# Altium integrated library Maxim Supervisors, Voltage Monitors and Sequencers.IntLib: 631 symbols (part 1 of 13)
Pins are listed as number, name and electrical type; pins without a type are passive.

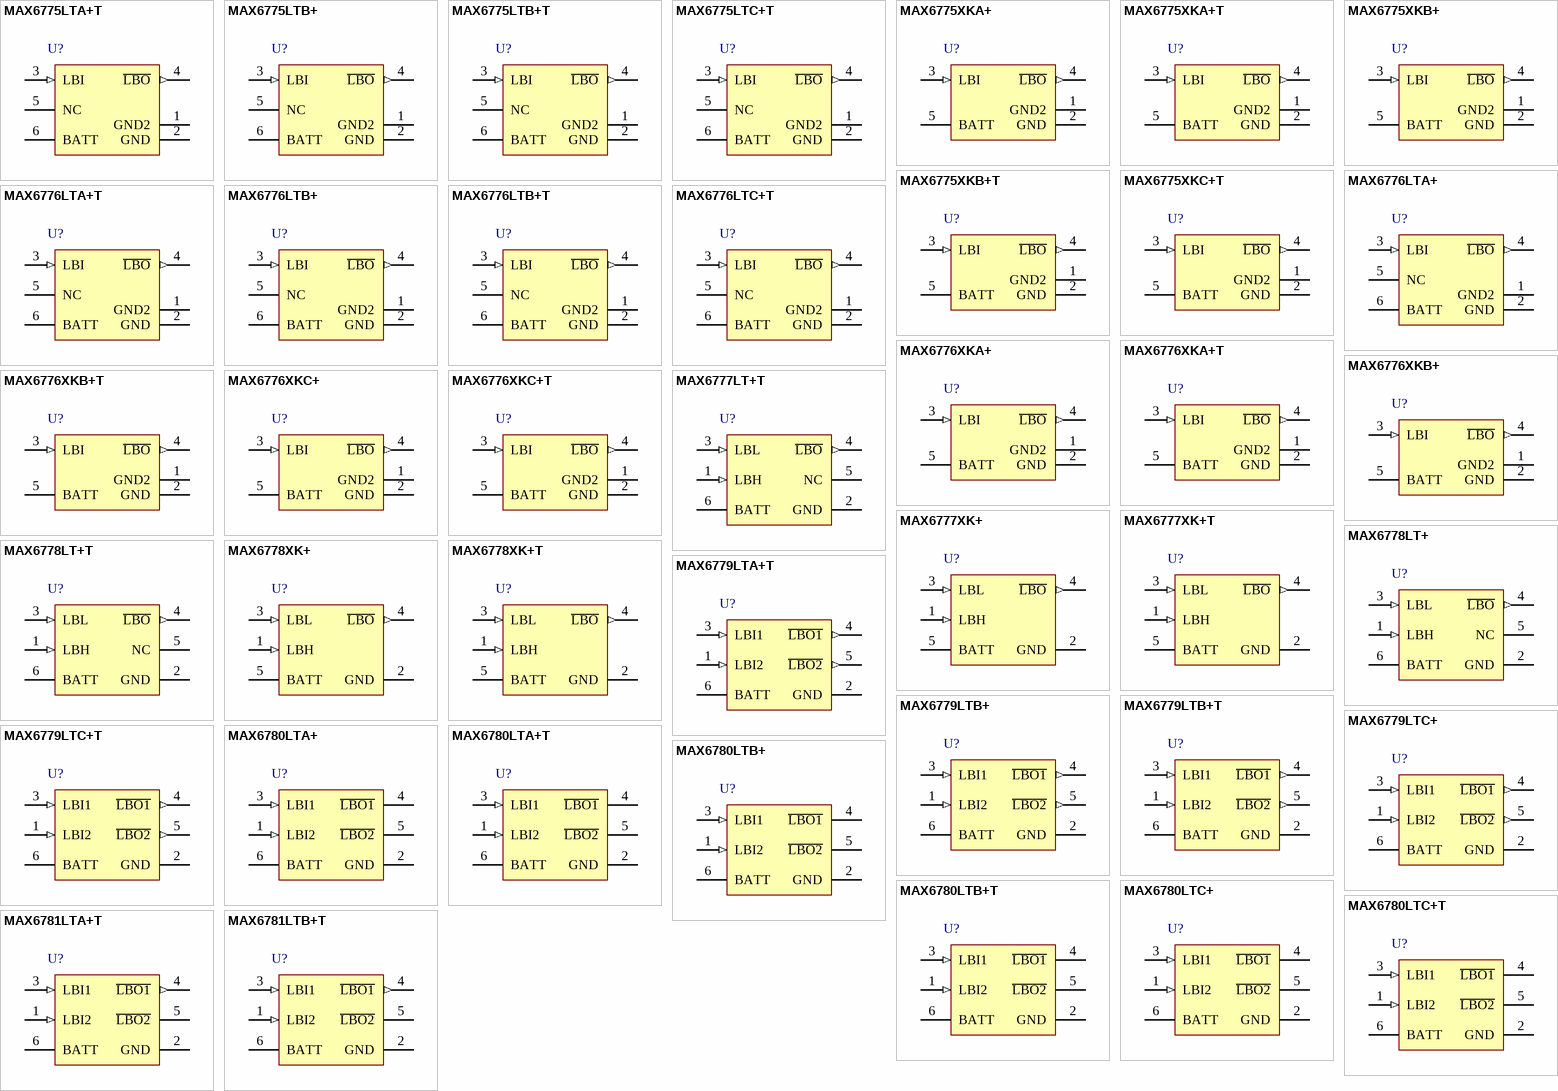
[diagram p0: symbols MAX6775LTA+T to MAX6781LTB+T]

## MAX6775LTA+T
designator U?
Low-Power, 1%-Accurate Battery Monitor, Single LBO output, Push-Pull output, Fixed hysteresis, 6-Pin DFN, -40°C to +85°C, Pb-Free, Tape and Reel; DatasheetVersion: Rev 4, May-2009; PackageVersion: revG, 2012; PackageReference: L611+1; PackageDescription: 6-Pin Micro Dual Flatpack No Lead, 1.5 x 1 x 0.8 mm Body, 0.5 mm Pitch, uDFN; ComponentLink1Description: Manufacturer URL; ComponentLink1URL: http://www.maxim-ic.com; ComponentLink2Description: Datasheet; ComponentLink2URL: http://datasheets.maxim-ic.com/en/ds/MAX6775-MAX6781.pdf; ComponentLink3Description: Package Specification; ComponentLink3URL: http://pdfserv.maxim-ic.com/package_dwgs/21-0147.PDF
footprint L611+1_N (SON, 6-Leads, Body 1.5x1mm, Pitch 0.5mm, IPC Medium Density)
footprint L611+1_L (SON, 6-Leads, Body 1.5x1mm, Pitch 0.5mm, IPC High Density)
footprint L611+1_M (SON, 6-Leads, Body 1.5x1mm, Pitch 0.5mm, IPC Low Density)
pins: 1 GND2 (power), 2 GND (power), 3 LBI (in), 4 ~{LBO} (out), 5 NC, 6 BATT (power)

## MAX6775LTB+
designator U?
Low-Power, 1%-Accurate Battery Monitor, Single LBO output, Push-Pull output, Fixed hysteresis, 6-Pin DFN, -40°C to +85°C, Pb-Free; DatasheetVersion: Rev 4, May-2009; PackageVersion: revG, 2012; PackageReference: L611+1; PackageDescription: 6-Pin Micro Dual Flatpack No Lead, 1.5 x 1 x 0.8 mm Body, 0.5 mm Pitch, uDFN; ComponentLink1Description: Manufacturer URL; ComponentLink1URL: http://www.maxim-ic.com; ComponentLink2Description: Datasheet; ComponentLink2URL: http://datasheets.maxim-ic.com/en/ds/MAX6775-MAX6781.pdf; ComponentLink3Description: Package Specification; ComponentLink3URL: http://pdfserv.maxim-ic.com/package_dwgs/21-0147.PDF
footprint L611+1_N (SON, 6-Leads, Body 1.5x1mm, Pitch 0.5mm, IPC Medium Density)
footprint L611+1_L (SON, 6-Leads, Body 1.5x1mm, Pitch 0.5mm, IPC High Density)
footprint L611+1_M (SON, 6-Leads, Body 1.5x1mm, Pitch 0.5mm, IPC Low Density)
pins: 1 GND2 (power), 2 GND (power), 3 LBI (in), 4 ~{LBO} (out), 5 NC, 6 BATT (power)

## MAX6775LTB+T
designator U?
Low-Power, 1%-Accurate Battery Monitor, Single LBO output, Push-Pull output, Fixed hysteresis, 6-Pin DFN, -40°C to +85°C, Pb-Free, Tape and Reel; DatasheetVersion: Rev 4, May-2009; PackageVersion: revG, 2012; PackageReference: L611+1; PackageDescription: 6-Pin Micro Dual Flatpack No Lead, 1.5 x 1 x 0.8 mm Body, 0.5 mm Pitch, uDFN; ComponentLink1Description: Manufacturer URL; ComponentLink1URL: http://www.maxim-ic.com; ComponentLink2Description: Datasheet; ComponentLink2URL: http://datasheets.maxim-ic.com/en/ds/MAX6775-MAX6781.pdf; ComponentLink3Description: Package Specification; ComponentLink3URL: http://pdfserv.maxim-ic.com/package_dwgs/21-0147.PDF
footprint L611+1_N (SON, 6-Leads, Body 1.5x1mm, Pitch 0.5mm, IPC Medium Density)
footprint L611+1_L (SON, 6-Leads, Body 1.5x1mm, Pitch 0.5mm, IPC High Density)
footprint L611+1_M (SON, 6-Leads, Body 1.5x1mm, Pitch 0.5mm, IPC Low Density)
pins: 1 GND2 (power), 2 GND (power), 3 LBI (in), 4 ~{LBO} (out), 5 NC, 6 BATT (power)

## MAX6775LTC+T
designator U?
Low-Power, 1%-Accurate Battery Monitor, Single LBO output, Push-Pull output, Fixed hysteresis, 6-Pin DFN, -40°C to +85°C, Pb-Free, Tape and Reel; DatasheetVersion: Rev 4, May-2009; PackageVersion: revG, 2012; PackageReference: L611+1; PackageDescription: 6-Pin Micro Dual Flatpack No Lead, 1.5 x 1 x 0.8 mm Body, 0.5 mm Pitch, uDFN; ComponentLink1Description: Manufacturer URL; ComponentLink1URL: http://www.maxim-ic.com; ComponentLink2Description: Datasheet; ComponentLink2URL: http://datasheets.maxim-ic.com/en/ds/MAX6775-MAX6781.pdf; ComponentLink3Description: Package Specification; ComponentLink3URL: http://pdfserv.maxim-ic.com/package_dwgs/21-0147.PDF
footprint L611+1_N (SON, 6-Leads, Body 1.5x1mm, Pitch 0.5mm, IPC Medium Density)
footprint L611+1_L (SON, 6-Leads, Body 1.5x1mm, Pitch 0.5mm, IPC High Density)
footprint L611+1_M (SON, 6-Leads, Body 1.5x1mm, Pitch 0.5mm, IPC Low Density)
pins: 1 GND2 (power), 2 GND (power), 3 LBI (in), 4 ~{LBO} (out), 5 NC, 6 BATT (power)

## MAX6775XKA+
designator U?
Low-Power, 1%-Accurate Battery Monitor, Single LBO output, Push-Pull output, Fixed hysteresis, 5-Pin SC70, -40°C to +85°C, Pb-Free; DatasheetVersion: Rev 4, May-2009; PackageVersion: revE, 2006; PackageReference: X5+1; PackageDescription: 5-Pin SC70 Transistor Package, 0.65 mm Pitch, 2.2 mm Lead Span; Code_JEDEC: MO-203; ComponentLink1Description: Manufacturer URL; ComponentLink1URL: http://www.maxim-ic.com; ComponentLink2Description: Datasheet; ComponentLink2URL: http://datasheets.maxim-ic.com/en/ds/MAX6775-MAX6781.pdf; ComponentLink3Description: Package Specification; ComponentLink3URL: http://pdfserv.maxim-ic.com/package_dwgs/21-0076.PDF
footprint X5+1_N (SOT353, 5-Leads, Body 2x1.3mm, Pitch 0.65mm, Lead Span 2.1mm, IPC Medium Density)
footprint X5+1_L (SOT353, 5-Leads, Body 2x1.3mm, Pitch 0.65mm, Lead Span 2.1mm, IPC High Density)
footprint X5+1_M (SOT353, 5-Leads, Body 2x1.3mm, Pitch 0.65mm, Lead Span 2.1mm, IPC Low Density)
pins: 1 GND2 (power), 2 GND (power), 3 LBI (in), 4 ~{LBO} (out), 5 BATT (power)

## MAX6775XKA+T
designator U?
Low-Power, 1%-Accurate Battery Monitor, Single LBO output, Push-Pull output, Fixed hysteresis, 5-Pin SC70, -40°C to +85°C, Pb-Free, Tape and Reel; DatasheetVersion: Rev 4, May-2009; PackageVersion: revE, 2006; PackageReference: X5+1; PackageDescription: 5-Pin SC70 Transistor Package, 0.65 mm Pitch, 2.2 mm Lead Span; Code_JEDEC: MO-203; ComponentLink1Description: Manufacturer URL; ComponentLink1URL: http://www.maxim-ic.com; ComponentLink2Description: Datasheet; ComponentLink2URL: http://datasheets.maxim-ic.com/en/ds/MAX6775-MAX6781.pdf; ComponentLink3Description: Package Specification; ComponentLink3URL: http://pdfserv.maxim-ic.com/package_dwgs/21-0076.PDF
footprint X5+1_N (SOT353, 5-Leads, Body 2x1.3mm, Pitch 0.65mm, Lead Span 2.1mm, IPC Medium Density)
footprint X5+1_L (SOT353, 5-Leads, Body 2x1.3mm, Pitch 0.65mm, Lead Span 2.1mm, IPC High Density)
footprint X5+1_M (SOT353, 5-Leads, Body 2x1.3mm, Pitch 0.65mm, Lead Span 2.1mm, IPC Low Density)
pins: 1 GND2 (power), 2 GND (power), 3 LBI (in), 4 ~{LBO} (out), 5 BATT (power)

## MAX6775XKB+
designator U?
Low-Power, 1%-Accurate Battery Monitor, Single LBO output, Push-Pull output, Fixed hysteresis, 5-Pin SC70, -40°C to +85°C, Pb-Free; DatasheetVersion: Rev 4, May-2009; PackageVersion: revE, 2006; PackageReference: X5+1; PackageDescription: 5-Pin SC70 Transistor Package, 0.65 mm Pitch, 2.2 mm Lead Span; Code_JEDEC: MO-203; ComponentLink1Description: Manufacturer URL; ComponentLink1URL: http://www.maxim-ic.com; ComponentLink2Description: Datasheet; ComponentLink2URL: http://datasheets.maxim-ic.com/en/ds/MAX6775-MAX6781.pdf; ComponentLink3Description: Package Specification; ComponentLink3URL: http://pdfserv.maxim-ic.com/package_dwgs/21-0076.PDF
footprint X5+1_N (SOT353, 5-Leads, Body 2x1.3mm, Pitch 0.65mm, Lead Span 2.1mm, IPC Medium Density)
footprint X5+1_L (SOT353, 5-Leads, Body 2x1.3mm, Pitch 0.65mm, Lead Span 2.1mm, IPC High Density)
footprint X5+1_M (SOT353, 5-Leads, Body 2x1.3mm, Pitch 0.65mm, Lead Span 2.1mm, IPC Low Density)
pins: 1 GND2 (power), 2 GND (power), 3 LBI (in), 4 ~{LBO} (out), 5 BATT (power)

## MAX6775XKB+T
designator U?
Low-Power, 1%-Accurate Battery Monitor, Single LBO output, Push-Pull output, Fixed hysteresis, 5-Pin SC70, -40°C to +85°C, Pb-Free, Tape and Reel; DatasheetVersion: Rev 4, May-2009; PackageVersion: revE, 2006; PackageReference: X5+1; PackageDescription: 5-Pin SC70 Transistor Package, 0.65 mm Pitch, 2.2 mm Lead Span; Code_JEDEC: MO-203; ComponentLink1Description: Manufacturer URL; ComponentLink1URL: http://www.maxim-ic.com; ComponentLink2Description: Datasheet; ComponentLink2URL: http://datasheets.maxim-ic.com/en/ds/MAX6775-MAX6781.pdf; ComponentLink3Description: Package Specification; ComponentLink3URL: http://pdfserv.maxim-ic.com/package_dwgs/21-0076.PDF
footprint X5+1_N (SOT353, 5-Leads, Body 2x1.3mm, Pitch 0.65mm, Lead Span 2.1mm, IPC Medium Density)
footprint X5+1_L (SOT353, 5-Leads, Body 2x1.3mm, Pitch 0.65mm, Lead Span 2.1mm, IPC High Density)
footprint X5+1_M (SOT353, 5-Leads, Body 2x1.3mm, Pitch 0.65mm, Lead Span 2.1mm, IPC Low Density)
pins: 1 GND2 (power), 2 GND (power), 3 LBI (in), 4 ~{LBO} (out), 5 BATT (power)

## MAX6775XKC+T
designator U?
Low-Power, 1%-Accurate Battery Monitor, Single LBO output, Push-Pull output, Fixed hysteresis, 5-Pin SC70, -40°C to +85°C, Pb-Free, Tape and Reel; DatasheetVersion: Rev 4, May-2009; PackageVersion: revE, 2006; PackageReference: X5+1; PackageDescription: 5-Pin SC70 Transistor Package, 0.65 mm Pitch, 2.2 mm Lead Span; Code_JEDEC: MO-203; ComponentLink1Description: Manufacturer URL; ComponentLink1URL: http://www.maxim-ic.com; ComponentLink2Description: Datasheet; ComponentLink2URL: http://datasheets.maxim-ic.com/en/ds/MAX6775-MAX6781.pdf; ComponentLink3Description: Package Specification; ComponentLink3URL: http://pdfserv.maxim-ic.com/package_dwgs/21-0076.PDF
footprint X5+1_N (SOT353, 5-Leads, Body 2x1.3mm, Pitch 0.65mm, Lead Span 2.1mm, IPC Medium Density)
footprint X5+1_L (SOT353, 5-Leads, Body 2x1.3mm, Pitch 0.65mm, Lead Span 2.1mm, IPC High Density)
footprint X5+1_M (SOT353, 5-Leads, Body 2x1.3mm, Pitch 0.65mm, Lead Span 2.1mm, IPC Low Density)
pins: 1 GND2 (power), 2 GND (power), 3 LBI (in), 4 ~{LBO} (out), 5 BATT (power)

## MAX6776LTA+
designator U?
Low-Power, 1%-Accurate Battery Monitor, Single LBO output, Open-Drain output, Fixed hysteresis, 6-Pin DFN, -40°C to +85°C, Pb-Free; DatasheetVersion: Rev 4, May-2009; PackageVersion: revG, 2012; PackageReference: L611+1; PackageDescription: 6-Pin Micro Dual Flatpack No Lead, 1.5 x 1 x 0.8 mm Body, 0.5 mm Pitch, uDFN; ComponentLink1Description: Manufacturer URL; ComponentLink1URL: http://www.maxim-ic.com; ComponentLink2Description: Datasheet; ComponentLink2URL: http://datasheets.maxim-ic.com/en/ds/MAX6775-MAX6781.pdf; ComponentLink3Description: Package Specification; ComponentLink3URL: http://pdfserv.maxim-ic.com/package_dwgs/21-0147.PDF
footprint L611+1_N (SON, 6-Leads, Body 1.5x1mm, Pitch 0.5mm, IPC Medium Density)
footprint L611+1_L (SON, 6-Leads, Body 1.5x1mm, Pitch 0.5mm, IPC High Density)
footprint L611+1_M (SON, 6-Leads, Body 1.5x1mm, Pitch 0.5mm, IPC Low Density)
pins: 1 GND2 (power), 2 GND (power), 3 LBI (in), 4 ~{LBO} (out), 5 NC, 6 BATT (power)

## MAX6776LTA+T
designator U?
Low-Power, 1%-Accurate Battery Monitor, Single LBO output, Open-Drain output, Fixed hysteresis, 6-Pin DFN, -40°C to +85°C, Pb-Free, Tape and Reel; DatasheetVersion: Rev 4, May-2009; PackageVersion: revG, 2012; PackageReference: L611+1; PackageDescription: 6-Pin Micro Dual Flatpack No Lead, 1.5 x 1 x 0.8 mm Body, 0.5 mm Pitch, uDFN; ComponentLink1Description: Manufacturer URL; ComponentLink1URL: http://www.maxim-ic.com; ComponentLink2Description: Datasheet; ComponentLink2URL: http://datasheets.maxim-ic.com/en/ds/MAX6775-MAX6781.pdf; ComponentLink3Description: Package Specification; ComponentLink3URL: http://pdfserv.maxim-ic.com/package_dwgs/21-0147.PDF
footprint L611+1_N (SON, 6-Leads, Body 1.5x1mm, Pitch 0.5mm, IPC Medium Density)
footprint L611+1_L (SON, 6-Leads, Body 1.5x1mm, Pitch 0.5mm, IPC High Density)
footprint L611+1_M (SON, 6-Leads, Body 1.5x1mm, Pitch 0.5mm, IPC Low Density)
pins: 1 GND2 (power), 2 GND (power), 3 LBI (in), 4 ~{LBO} (out), 5 NC, 6 BATT (power)

## MAX6776LTB+
designator U?
Low-Power, 1%-Accurate Battery Monitor, Single LBO output, Open-Drain output, Fixed hysteresis, 6-Pin DFN, -40°C to +85°C, Pb-Free; DatasheetVersion: Rev 4, May-2009; PackageVersion: revG, 2012; PackageReference: L611+1; PackageDescription: 6-Pin Micro Dual Flatpack No Lead, 1.5 x 1 x 0.8 mm Body, 0.5 mm Pitch, uDFN; ComponentLink1Description: Manufacturer URL; ComponentLink1URL: http://www.maxim-ic.com; ComponentLink2Description: Datasheet; ComponentLink2URL: http://datasheets.maxim-ic.com/en/ds/MAX6775-MAX6781.pdf; ComponentLink3Description: Package Specification; ComponentLink3URL: http://pdfserv.maxim-ic.com/package_dwgs/21-0147.PDF
footprint L611+1_N (SON, 6-Leads, Body 1.5x1mm, Pitch 0.5mm, IPC Medium Density)
footprint L611+1_L (SON, 6-Leads, Body 1.5x1mm, Pitch 0.5mm, IPC High Density)
footprint L611+1_M (SON, 6-Leads, Body 1.5x1mm, Pitch 0.5mm, IPC Low Density)
pins: 1 GND2 (power), 2 GND (power), 3 LBI (in), 4 ~{LBO} (out), 5 NC, 6 BATT (power)

## MAX6776LTB+T
designator U?
Low-Power, 1%-Accurate Battery Monitor, Single LBO output, Open-Drain output, Fixed hysteresis, 6-Pin DFN, -40°C to +85°C, Pb-Free, Tape and Reel; DatasheetVersion: Rev 4, May-2009; PackageVersion: revG, 2012; PackageReference: L611+1; PackageDescription: 6-Pin Micro Dual Flatpack No Lead, 1.5 x 1 x 0.8 mm Body, 0.5 mm Pitch, uDFN; ComponentLink1Description: Manufacturer URL; ComponentLink1URL: http://www.maxim-ic.com; ComponentLink2Description: Datasheet; ComponentLink2URL: http://datasheets.maxim-ic.com/en/ds/MAX6775-MAX6781.pdf; ComponentLink3Description: Package Specification; ComponentLink3URL: http://pdfserv.maxim-ic.com/package_dwgs/21-0147.PDF
footprint L611+1_N (SON, 6-Leads, Body 1.5x1mm, Pitch 0.5mm, IPC Medium Density)
footprint L611+1_L (SON, 6-Leads, Body 1.5x1mm, Pitch 0.5mm, IPC High Density)
footprint L611+1_M (SON, 6-Leads, Body 1.5x1mm, Pitch 0.5mm, IPC Low Density)
pins: 1 GND2 (power), 2 GND (power), 3 LBI (in), 4 ~{LBO} (out), 5 NC, 6 BATT (power)

## MAX6776LTC+T
designator U?
Low-Power, 1%-Accurate Battery Monitor, Single LBO output, Open-Drain output, Fixed hysteresis, 6-Pin DFN, -40°C to +85°C, Pb-Free, Tape and Reel; DatasheetVersion: Rev 4, May-2009; PackageVersion: revG, 2012; PackageReference: L611+1; PackageDescription: 6-Pin Micro Dual Flatpack No Lead, 1.5 x 1 x 0.8 mm Body, 0.5 mm Pitch, uDFN; ComponentLink1Description: Manufacturer URL; ComponentLink1URL: http://www.maxim-ic.com; ComponentLink2Description: Datasheet; ComponentLink2URL: http://datasheets.maxim-ic.com/en/ds/MAX6775-MAX6781.pdf; ComponentLink3Description: Package Specification; ComponentLink3URL: http://pdfserv.maxim-ic.com/package_dwgs/21-0147.PDF
footprint L611+1_N (SON, 6-Leads, Body 1.5x1mm, Pitch 0.5mm, IPC Medium Density)
footprint L611+1_L (SON, 6-Leads, Body 1.5x1mm, Pitch 0.5mm, IPC High Density)
footprint L611+1_M (SON, 6-Leads, Body 1.5x1mm, Pitch 0.5mm, IPC Low Density)
pins: 1 GND2 (power), 2 GND (power), 3 LBI (in), 4 ~{LBO} (out), 5 NC, 6 BATT (power)

## MAX6776XKA+
designator U?
Low-Power, 1%-Accurate Battery Monitor, Single LBO output, Open-Drain output, Fixed hysteresis, 5-Pin SC70, -40°C to +85°C, Pb-Free; DatasheetVersion: Rev 4, May-2009; PackageVersion: revE, 2006; PackageReference: X5+1; PackageDescription: 5-Pin SC70 Transistor Package, 0.65 mm Pitch, 2.2 mm Lead Span; Code_JEDEC: MO-203; ComponentLink1Description: Manufacturer URL; ComponentLink1URL: http://www.maxim-ic.com; ComponentLink2Description: Datasheet; ComponentLink2URL: http://datasheets.maxim-ic.com/en/ds/MAX6775-MAX6781.pdf; ComponentLink3Description: Package Specification; ComponentLink3URL: http://pdfserv.maxim-ic.com/package_dwgs/21-0076.PDF
footprint X5+1_N (SOT353, 5-Leads, Body 2x1.3mm, Pitch 0.65mm, Lead Span 2.1mm, IPC Medium Density)
footprint X5+1_L (SOT353, 5-Leads, Body 2x1.3mm, Pitch 0.65mm, Lead Span 2.1mm, IPC High Density)
footprint X5+1_M (SOT353, 5-Leads, Body 2x1.3mm, Pitch 0.65mm, Lead Span 2.1mm, IPC Low Density)
pins: 1 GND2 (power), 2 GND (power), 3 LBI (in), 4 ~{LBO} (out), 5 BATT (power)

## MAX6776XKA+T
designator U?
Low-Power, 1%-Accurate Battery Monitor, Single LBO output, Open-Drain output, Fixed hysteresis, 5-Pin SC70, -40°C to +85°C, Pb-Free, Tape and Reel; DatasheetVersion: Rev 4, May-2009; PackageVersion: revE, 2006; PackageReference: X5+1; PackageDescription: 5-Pin SC70 Transistor Package, 0.65 mm Pitch, 2.2 mm Lead Span; Code_JEDEC: MO-203; ComponentLink1Description: Manufacturer URL; ComponentLink1URL: http://www.maxim-ic.com; ComponentLink2Description: Datasheet; ComponentLink2URL: http://datasheets.maxim-ic.com/en/ds/MAX6775-MAX6781.pdf; ComponentLink3Description: Package Specification; ComponentLink3URL: http://pdfserv.maxim-ic.com/package_dwgs/21-0076.PDF
footprint X5+1_N (SOT353, 5-Leads, Body 2x1.3mm, Pitch 0.65mm, Lead Span 2.1mm, IPC Medium Density)
footprint X5+1_L (SOT353, 5-Leads, Body 2x1.3mm, Pitch 0.65mm, Lead Span 2.1mm, IPC High Density)
footprint X5+1_M (SOT353, 5-Leads, Body 2x1.3mm, Pitch 0.65mm, Lead Span 2.1mm, IPC Low Density)
pins: 1 GND2 (power), 2 GND (power), 3 LBI (in), 4 ~{LBO} (out), 5 BATT (power)

## MAX6776XKB+
designator U?
Low-Power, 1%-Accurate Battery Monitor, Single LBO output, Open-Drain output, Fixed hysteresis, 5-Pin SC70, -40°C to +85°C, Pb-Free; DatasheetVersion: Rev 4, May-2009; PackageVersion: revE, 2006; PackageReference: X5+1; PackageDescription: 5-Pin SC70 Transistor Package, 0.65 mm Pitch, 2.2 mm Lead Span; Code_JEDEC: MO-203; ComponentLink1Description: Manufacturer URL; ComponentLink1URL: http://www.maxim-ic.com; ComponentLink2Description: Datasheet; ComponentLink2URL: http://datasheets.maxim-ic.com/en/ds/MAX6775-MAX6781.pdf; ComponentLink3Description: Package Specification; ComponentLink3URL: http://pdfserv.maxim-ic.com/package_dwgs/21-0076.PDF
footprint X5+1_N (SOT353, 5-Leads, Body 2x1.3mm, Pitch 0.65mm, Lead Span 2.1mm, IPC Medium Density)
footprint X5+1_L (SOT353, 5-Leads, Body 2x1.3mm, Pitch 0.65mm, Lead Span 2.1mm, IPC High Density)
footprint X5+1_M (SOT353, 5-Leads, Body 2x1.3mm, Pitch 0.65mm, Lead Span 2.1mm, IPC Low Density)
pins: 1 GND2 (power), 2 GND (power), 3 LBI (in), 4 ~{LBO} (out), 5 BATT (power)

## MAX6776XKB+T
designator U?
Low-Power, 1%-Accurate Battery Monitor, Single LBO output, Open-Drain output, Fixed hysteresis, 5-Pin SC70, -40°C to +85°C, Pb-Free, Tape and Reel; DatasheetVersion: Rev 4, May-2009; PackageVersion: revE, 2006; PackageReference: X5+1; PackageDescription: 5-Pin SC70 Transistor Package, 0.65 mm Pitch, 2.2 mm Lead Span; Code_JEDEC: MO-203; ComponentLink1Description: Manufacturer URL; ComponentLink1URL: http://www.maxim-ic.com; ComponentLink2Description: Datasheet; ComponentLink2URL: http://datasheets.maxim-ic.com/en/ds/MAX6775-MAX6781.pdf; ComponentLink3Description: Package Specification; ComponentLink3URL: http://pdfserv.maxim-ic.com/package_dwgs/21-0076.PDF
footprint X5+1_N (SOT353, 5-Leads, Body 2x1.3mm, Pitch 0.65mm, Lead Span 2.1mm, IPC Medium Density)
footprint X5+1_L (SOT353, 5-Leads, Body 2x1.3mm, Pitch 0.65mm, Lead Span 2.1mm, IPC High Density)
footprint X5+1_M (SOT353, 5-Leads, Body 2x1.3mm, Pitch 0.65mm, Lead Span 2.1mm, IPC Low Density)
pins: 1 GND2 (power), 2 GND (power), 3 LBI (in), 4 ~{LBO} (out), 5 BATT (power)

## MAX6776XKC+
designator U?
Low-Power, 1%-Accurate Battery Monitor, Single LBO output, Open-Drain output, Fixed hysteresis, 5-Pin SC70, -40°C to +85°C, Pb-Free; DatasheetVersion: Rev 4, May-2009; PackageVersion: revE, 2006; PackageReference: X5+1; PackageDescription: 5-Pin SC70 Transistor Package, 0.65 mm Pitch, 2.2 mm Lead Span; Code_JEDEC: MO-203; ComponentLink1Description: Manufacturer URL; ComponentLink1URL: http://www.maxim-ic.com; ComponentLink2Description: Datasheet; ComponentLink2URL: http://datasheets.maxim-ic.com/en/ds/MAX6775-MAX6781.pdf; ComponentLink3Description: Package Specification; ComponentLink3URL: http://pdfserv.maxim-ic.com/package_dwgs/21-0076.PDF
footprint X5+1_N (SOT353, 5-Leads, Body 2x1.3mm, Pitch 0.65mm, Lead Span 2.1mm, IPC Medium Density)
footprint X5+1_L (SOT353, 5-Leads, Body 2x1.3mm, Pitch 0.65mm, Lead Span 2.1mm, IPC High Density)
footprint X5+1_M (SOT353, 5-Leads, Body 2x1.3mm, Pitch 0.65mm, Lead Span 2.1mm, IPC Low Density)
pins: 1 GND2 (power), 2 GND (power), 3 LBI (in), 4 ~{LBO} (out), 5 BATT (power)

## MAX6776XKC+T
designator U?
Low-Power, 1%-Accurate Battery Monitor, Single LBO output, Open-Drain output, Fixed hysteresis, 5-Pin SC70, -40°C to +85°C, Pb-Free, Tape and Reel; DatasheetVersion: Rev 4, May-2009; PackageVersion: revE, 2006; PackageReference: X5+1; PackageDescription: 5-Pin SC70 Transistor Package, 0.65 mm Pitch, 2.2 mm Lead Span; Code_JEDEC: MO-203; ComponentLink1Description: Manufacturer URL; ComponentLink1URL: http://www.maxim-ic.com; ComponentLink2Description: Datasheet; ComponentLink2URL: http://datasheets.maxim-ic.com/en/ds/MAX6775-MAX6781.pdf; ComponentLink3Description: Package Specification; ComponentLink3URL: http://pdfserv.maxim-ic.com/package_dwgs/21-0076.PDF
footprint X5+1_N (SOT353, 5-Leads, Body 2x1.3mm, Pitch 0.65mm, Lead Span 2.1mm, IPC Medium Density)
footprint X5+1_L (SOT353, 5-Leads, Body 2x1.3mm, Pitch 0.65mm, Lead Span 2.1mm, IPC High Density)
footprint X5+1_M (SOT353, 5-Leads, Body 2x1.3mm, Pitch 0.65mm, Lead Span 2.1mm, IPC Low Density)
pins: 1 GND2 (power), 2 GND (power), 3 LBI (in), 4 ~{LBO} (out), 5 BATT (power)

## MAX6777LT+T
designator U?
Low-Power, 1%-Accurate Battery Monitor, Single LBO output, Push-Pull output, Adjustable hysteresis, 6-Pin DFN, -40°C to +85°C, Pb-Free, Tape and Reel; DatasheetVersion: Rev 4, May-2009; PackageVersion: revG, 2012; PackageReference: L611+1; PackageDescription: 6-Pin Micro Dual Flatpack No Lead, 1.5 x 1 x 0.8 mm Body, 0.5 mm Pitch, uDFN; ComponentLink1Description: Manufacturer URL; ComponentLink1URL: http://www.maxim-ic.com; ComponentLink2Description: Datasheet; ComponentLink2URL: http://datasheets.maxim-ic.com/en/ds/MAX6775-MAX6781.pdf; ComponentLink3Description: Package Specification; ComponentLink3URL: http://pdfserv.maxim-ic.com/package_dwgs/21-0147.PDF
footprint L611+1_N (SON, 6-Leads, Body 1.5x1mm, Pitch 0.5mm, IPC Medium Density)
footprint L611+1_L (SON, 6-Leads, Body 1.5x1mm, Pitch 0.5mm, IPC High Density)
footprint L611+1_M (SON, 6-Leads, Body 1.5x1mm, Pitch 0.5mm, IPC Low Density)
pins: 1 LBH (in), 2 GND (power), 3 LBL (in), 4 ~{LBO} (out), 5 NC, 6 BATT (power)

## MAX6777XK+
designator U?
Low-Power, 1%-Accurate Battery Monitor, Single LBO output, Push-Pull output, Adjustable hysteresis, 5-Pin SC70, -40°C to +85°C, Pb-Free; DatasheetVersion: Rev 4, May-2009; PackageVersion: revE, 2006; PackageReference: X5+1; PackageDescription: 5-Pin SC70 Transistor Package, 0.65 mm Pitch, 2.2 mm Lead Span; Code_JEDEC: MO-203; ComponentLink1Description: Manufacturer URL; ComponentLink1URL: http://www.maxim-ic.com; ComponentLink2Description: Datasheet; ComponentLink2URL: http://datasheets.maxim-ic.com/en/ds/MAX6775-MAX6781.pdf; ComponentLink3Description: Package Specification; ComponentLink3URL: http://pdfserv.maxim-ic.com/package_dwgs/21-0076.PDF
footprint X5+1_N (SOT353, 5-Leads, Body 2x1.3mm, Pitch 0.65mm, Lead Span 2.1mm, IPC Medium Density)
footprint X5+1_L (SOT353, 5-Leads, Body 2x1.3mm, Pitch 0.65mm, Lead Span 2.1mm, IPC High Density)
footprint X5+1_M (SOT353, 5-Leads, Body 2x1.3mm, Pitch 0.65mm, Lead Span 2.1mm, IPC Low Density)
pins: 1 LBH (in), 2 GND (power), 3 LBL (in), 4 ~{LBO} (out), 5 BATT (power)

## MAX6777XK+T
designator U?
Low-Power, 1%-Accurate Battery Monitor, Single LBO output, Push-Pull output, Adjustable hysteresis, 5-Pin SC70, -40°C to +85°C, Pb-Free, Tape and Reel; DatasheetVersion: Rev 4, May-2009; PackageVersion: revE, 2006; PackageReference: X5+1; PackageDescription: 5-Pin SC70 Transistor Package, 0.65 mm Pitch, 2.2 mm Lead Span; Code_JEDEC: MO-203; ComponentLink1Description: Manufacturer URL; ComponentLink1URL: http://www.maxim-ic.com; ComponentLink2Description: Datasheet; ComponentLink2URL: http://datasheets.maxim-ic.com/en/ds/MAX6775-MAX6781.pdf; ComponentLink3Description: Package Specification; ComponentLink3URL: http://pdfserv.maxim-ic.com/package_dwgs/21-0076.PDF
footprint X5+1_N (SOT353, 5-Leads, Body 2x1.3mm, Pitch 0.65mm, Lead Span 2.1mm, IPC Medium Density)
footprint X5+1_L (SOT353, 5-Leads, Body 2x1.3mm, Pitch 0.65mm, Lead Span 2.1mm, IPC High Density)
footprint X5+1_M (SOT353, 5-Leads, Body 2x1.3mm, Pitch 0.65mm, Lead Span 2.1mm, IPC Low Density)
pins: 1 LBH (in), 2 GND (power), 3 LBL (in), 4 ~{LBO} (out), 5 BATT (power)

## MAX6778LT+
designator U?
Low-Power, 1%-Accurate Battery Monitor, Single LBO output, Open-Drain output, Adjustable hysteresis, 6-Pin DFN, -40°C to +85°C, Pb-Free; DatasheetVersion: Rev 4, May-2009; PackageVersion: revG, 2012; PackageReference: L611+1; PackageDescription: 6-Pin Micro Dual Flatpack No Lead, 1.5 x 1 x 0.8 mm Body, 0.5 mm Pitch, uDFN; ComponentLink1Description: Manufacturer URL; ComponentLink1URL: http://www.maxim-ic.com; ComponentLink2Description: Datasheet; ComponentLink2URL: http://datasheets.maxim-ic.com/en/ds/MAX6775-MAX6781.pdf; ComponentLink3Description: Package Specification; ComponentLink3URL: http://pdfserv.maxim-ic.com/package_dwgs/21-0147.PDF
footprint L611+1_N (SON, 6-Leads, Body 1.5x1mm, Pitch 0.5mm, IPC Medium Density)
footprint L611+1_L (SON, 6-Leads, Body 1.5x1mm, Pitch 0.5mm, IPC High Density)
footprint L611+1_M (SON, 6-Leads, Body 1.5x1mm, Pitch 0.5mm, IPC Low Density)
pins: 1 LBH (in), 2 GND (power), 3 LBL (in), 4 ~{LBO} (out), 5 NC, 6 BATT (power)

## MAX6778LT+T
designator U?
Low-Power, 1%-Accurate Battery Monitor, Single LBO output, Open-Drain output, Adjustable hysteresis, 6-Pin DFN, -40°C to +85°C, Pb-Free, Tape and Reel; DatasheetVersion: Rev 4, May-2009; PackageVersion: revG, 2012; PackageReference: L611+1; PackageDescription: 6-Pin Micro Dual Flatpack No Lead, 1.5 x 1 x 0.8 mm Body, 0.5 mm Pitch, uDFN; ComponentLink1Description: Manufacturer URL; ComponentLink1URL: http://www.maxim-ic.com; ComponentLink2Description: Datasheet; ComponentLink2URL: http://datasheets.maxim-ic.com/en/ds/MAX6775-MAX6781.pdf; ComponentLink3Description: Package Specification; ComponentLink3URL: http://pdfserv.maxim-ic.com/package_dwgs/21-0147.PDF
footprint L611+1_N (SON, 6-Leads, Body 1.5x1mm, Pitch 0.5mm, IPC Medium Density)
footprint L611+1_L (SON, 6-Leads, Body 1.5x1mm, Pitch 0.5mm, IPC High Density)
footprint L611+1_M (SON, 6-Leads, Body 1.5x1mm, Pitch 0.5mm, IPC Low Density)
pins: 1 LBH (in), 2 GND (power), 3 LBL (in), 4 ~{LBO} (out), 5 NC, 6 BATT (power)

## MAX6778XK+
designator U?
Low-Power, 1%-Accurate Battery Monitor, Single LBO output, Open-Drain output, Adjustable hysteresis, 5-Pin SC70, -40°C to +85°C, Pb-Free; DatasheetVersion: Rev 4, May-2009; PackageVersion: revE, 2006; PackageReference: X5+1; PackageDescription: 5-Pin SC70 Transistor Package, 0.65 mm Pitch, 2.2 mm Lead Span; Code_JEDEC: MO-203; ComponentLink1Description: Manufacturer URL; ComponentLink1URL: http://www.maxim-ic.com; ComponentLink2Description: Datasheet; ComponentLink2URL: http://datasheets.maxim-ic.com/en/ds/MAX6775-MAX6781.pdf; ComponentLink3Description: Package Specification; ComponentLink3URL: http://pdfserv.maxim-ic.com/package_dwgs/21-0076.PDF
footprint X5+1_N (SOT353, 5-Leads, Body 2x1.3mm, Pitch 0.65mm, Lead Span 2.1mm, IPC Medium Density)
footprint X5+1_L (SOT353, 5-Leads, Body 2x1.3mm, Pitch 0.65mm, Lead Span 2.1mm, IPC High Density)
footprint X5+1_M (SOT353, 5-Leads, Body 2x1.3mm, Pitch 0.65mm, Lead Span 2.1mm, IPC Low Density)
pins: 1 LBH (in), 2 GND (power), 3 LBL (in), 4 ~{LBO} (out), 5 BATT (power)

## MAX6778XK+T
designator U?
Low-Power, 1%-Accurate Battery Monitor, Single LBO output, Open-Drain output, Adjustable hysteresis, 5-Pin SC70, -40°C to +85°C, Pb-Free, Tape and Reel; DatasheetVersion: Rev 4, May-2009; PackageVersion: revE, 2006; PackageReference: X5+1; PackageDescription: 5-Pin SC70 Transistor Package, 0.65 mm Pitch, 2.2 mm Lead Span; Code_JEDEC: MO-203; ComponentLink1Description: Manufacturer URL; ComponentLink1URL: http://www.maxim-ic.com; ComponentLink2Description: Datasheet; ComponentLink2URL: http://datasheets.maxim-ic.com/en/ds/MAX6775-MAX6781.pdf; ComponentLink3Description: Package Specification; ComponentLink3URL: http://pdfserv.maxim-ic.com/package_dwgs/21-0076.PDF
footprint X5+1_N (SOT353, 5-Leads, Body 2x1.3mm, Pitch 0.65mm, Lead Span 2.1mm, IPC Medium Density)
footprint X5+1_L (SOT353, 5-Leads, Body 2x1.3mm, Pitch 0.65mm, Lead Span 2.1mm, IPC High Density)
footprint X5+1_M (SOT353, 5-Leads, Body 2x1.3mm, Pitch 0.65mm, Lead Span 2.1mm, IPC Low Density)
pins: 1 LBH (in), 2 GND (power), 3 LBL (in), 4 ~{LBO} (out), 5 BATT (power)

## MAX6779LTA+T
designator U?
Low-Power, 1%-Accurate Battery Monitor, Dual LBO output, Push-Pull output, Fixed hysteresis, 6-Pin DFN, -40°C to +85°C, Pb-Free, Tape and Reel; DatasheetVersion: Rev 4, May-2009; PackageVersion: revG, 2012; PackageReference: L611+1; PackageDescription: 6-Pin Micro Dual Flatpack No Lead, 1.5 x 1 x 0.8 mm Body, 0.5 mm Pitch, uDFN; ComponentLink1Description: Manufacturer URL; ComponentLink1URL: http://www.maxim-ic.com; ComponentLink2Description: Datasheet; ComponentLink2URL: http://datasheets.maxim-ic.com/en/ds/MAX6775-MAX6781.pdf; ComponentLink3Description: Package Specification; ComponentLink3URL: http://pdfserv.maxim-ic.com/package_dwgs/21-0147.PDF
footprint L611+1_N (SON, 6-Leads, Body 1.5x1mm, Pitch 0.5mm, IPC Medium Density)
footprint L611+1_L (SON, 6-Leads, Body 1.5x1mm, Pitch 0.5mm, IPC High Density)
footprint L611+1_M (SON, 6-Leads, Body 1.5x1mm, Pitch 0.5mm, IPC Low Density)
pins: 1 LBI2 (in), 2 GND (power), 3 LBI1 (in), 4 ~{LBO1} (out), 5 ~{LBO2} (out), 6 BATT (power)

## MAX6779LTB+
designator U?
Low-Power, 1%-Accurate Battery Monitor, Dual LBO output, Push-Pull output, Fixed hysteresis, 6-Pin DFN, -40°C to +85°C, Pb-Free; DatasheetVersion: Rev 4, May-2009; PackageVersion: revG, 2012; PackageReference: L611+1; PackageDescription: 6-Pin Micro Dual Flatpack No Lead, 1.5 x 1 x 0.8 mm Body, 0.5 mm Pitch, uDFN; ComponentLink1Description: Manufacturer URL; ComponentLink1URL: http://www.maxim-ic.com; ComponentLink2Description: Datasheet; ComponentLink2URL: http://datasheets.maxim-ic.com/en/ds/MAX6775-MAX6781.pdf; ComponentLink3Description: Package Specification; ComponentLink3URL: http://pdfserv.maxim-ic.com/package_dwgs/21-0147.PDF
footprint L611+1_N (SON, 6-Leads, Body 1.5x1mm, Pitch 0.5mm, IPC Medium Density)
footprint L611+1_L (SON, 6-Leads, Body 1.5x1mm, Pitch 0.5mm, IPC High Density)
footprint L611+1_M (SON, 6-Leads, Body 1.5x1mm, Pitch 0.5mm, IPC Low Density)
pins: 1 LBI2 (in), 2 GND (power), 3 LBI1 (in), 4 ~{LBO1} (out), 5 ~{LBO2} (out), 6 BATT (power)

## MAX6779LTB+T
designator U?
Low-Power, 1%-Accurate Battery Monitor, Dual LBO output, Push-Pull output, Fixed hysteresis, 6-Pin DFN, -40°C to +85°C, Pb-Free, Tape and Reel; DatasheetVersion: Rev 4, May-2009; PackageVersion: revG, 2012; PackageReference: L611+1; PackageDescription: 6-Pin Micro Dual Flatpack No Lead, 1.5 x 1 x 0.8 mm Body, 0.5 mm Pitch, uDFN; ComponentLink1Description: Manufacturer URL; ComponentLink1URL: http://www.maxim-ic.com; ComponentLink2Description: Datasheet; ComponentLink2URL: http://datasheets.maxim-ic.com/en/ds/MAX6775-MAX6781.pdf; ComponentLink3Description: Package Specification; ComponentLink3URL: http://pdfserv.maxim-ic.com/package_dwgs/21-0147.PDF
footprint L611+1_N (SON, 6-Leads, Body 1.5x1mm, Pitch 0.5mm, IPC Medium Density)
footprint L611+1_L (SON, 6-Leads, Body 1.5x1mm, Pitch 0.5mm, IPC High Density)
footprint L611+1_M (SON, 6-Leads, Body 1.5x1mm, Pitch 0.5mm, IPC Low Density)
pins: 1 LBI2 (in), 2 GND (power), 3 LBI1 (in), 4 ~{LBO1} (out), 5 ~{LBO2} (out), 6 BATT (power)

## MAX6779LTC+
designator U?
Low-Power, 1%-Accurate Battery Monitor, Dual LBO output, Push-Pull output, Fixed hysteresis, 6-Pin DFN, -40°C to +85°C, Pb-Free; DatasheetVersion: Rev 4, May-2009; PackageVersion: revG, 2012; PackageReference: L611+1; PackageDescription: 6-Pin Micro Dual Flatpack No Lead, 1.5 x 1 x 0.8 mm Body, 0.5 mm Pitch, uDFN; ComponentLink1Description: Manufacturer URL; ComponentLink1URL: http://www.maxim-ic.com; ComponentLink2Description: Datasheet; ComponentLink2URL: http://datasheets.maxim-ic.com/en/ds/MAX6775-MAX6781.pdf; ComponentLink3Description: Package Specification; ComponentLink3URL: http://pdfserv.maxim-ic.com/package_dwgs/21-0147.PDF
footprint L611+1_N (SON, 6-Leads, Body 1.5x1mm, Pitch 0.5mm, IPC Medium Density)
footprint L611+1_L (SON, 6-Leads, Body 1.5x1mm, Pitch 0.5mm, IPC High Density)
footprint L611+1_M (SON, 6-Leads, Body 1.5x1mm, Pitch 0.5mm, IPC Low Density)
pins: 1 LBI2 (in), 2 GND (power), 3 LBI1 (in), 4 ~{LBO1} (out), 5 ~{LBO2} (out), 6 BATT (power)

## MAX6779LTC+T
designator U?
Low-Power, 1%-Accurate Battery Monitor, Dual LBO output, Push-Pull output, Fixed hysteresis, 6-Pin DFN, -40°C to +85°C, Pb-Free, Tape and Reel; DatasheetVersion: Rev 4, May-2009; PackageVersion: revG, 2012; PackageReference: L611+1; PackageDescription: 6-Pin Micro Dual Flatpack No Lead, 1.5 x 1 x 0.8 mm Body, 0.5 mm Pitch, uDFN; ComponentLink1Description: Manufacturer URL; ComponentLink1URL: http://www.maxim-ic.com; ComponentLink2Description: Datasheet; ComponentLink2URL: http://datasheets.maxim-ic.com/en/ds/MAX6775-MAX6781.pdf; ComponentLink3Description: Package Specification; ComponentLink3URL: http://pdfserv.maxim-ic.com/package_dwgs/21-0147.PDF
footprint L611+1_N (SON, 6-Leads, Body 1.5x1mm, Pitch 0.5mm, IPC Medium Density)
footprint L611+1_L (SON, 6-Leads, Body 1.5x1mm, Pitch 0.5mm, IPC High Density)
footprint L611+1_M (SON, 6-Leads, Body 1.5x1mm, Pitch 0.5mm, IPC Low Density)
pins: 1 LBI2 (in), 2 GND (power), 3 LBI1 (in), 4 ~{LBO1} (out), 5 ~{LBO2} (out), 6 BATT (power)

## MAX6780LTA+
designator U?
Low-Power, 1%-Accurate Battery Monitor, Dual LBO output, Open-Drain output, Fixed hysteresis, 6-Pin DFN, -40°C to +85°C, Pb-Free; DatasheetVersion: Rev 4, May-2009; PackageVersion: revG, 2012; PackageReference: L611+1; PackageDescription: 6-Pin Micro Dual Flatpack No Lead, 1.5 x 1 x 0.8 mm Body, 0.5 mm Pitch, uDFN; ComponentLink1Description: Manufacturer URL; ComponentLink1URL: http://www.maxim-ic.com; ComponentLink2Description: Datasheet; ComponentLink2URL: http://datasheets.maxim-ic.com/en/ds/MAX6775-MAX6781.pdf; ComponentLink3Description: Package Specification; ComponentLink3URL: http://pdfserv.maxim-ic.com/package_dwgs/21-0147.PDF
footprint L611+1_N (SON, 6-Leads, Body 1.5x1mm, Pitch 0.5mm, IPC Medium Density)
footprint L611+1_L (SON, 6-Leads, Body 1.5x1mm, Pitch 0.5mm, IPC High Density)
footprint L611+1_M (SON, 6-Leads, Body 1.5x1mm, Pitch 0.5mm, IPC Low Density)
pins: 1 LBI2 (in), 2 GND (power), 3 LBI1 (in), 4 ~{LBO1} (oc), 5 ~{LBO2} (oc), 6 BATT (power)

## MAX6780LTA+T
designator U?
Low-Power, 1%-Accurate Battery Monitor, Dual LBO output, Open-Drain output, Fixed hysteresis, 6-Pin DFN, -40°C to +85°C, Pb-Free, Tape and Reel; DatasheetVersion: Rev 4, May-2009; PackageVersion: revG, 2012; PackageReference: L611+1; PackageDescription: 6-Pin Micro Dual Flatpack No Lead, 1.5 x 1 x 0.8 mm Body, 0.5 mm Pitch, uDFN; ComponentLink1Description: Manufacturer URL; ComponentLink1URL: http://www.maxim-ic.com; ComponentLink2Description: Datasheet; ComponentLink2URL: http://datasheets.maxim-ic.com/en/ds/MAX6775-MAX6781.pdf; ComponentLink3Description: Package Specification; ComponentLink3URL: http://pdfserv.maxim-ic.com/package_dwgs/21-0147.PDF
footprint L611+1_N (SON, 6-Leads, Body 1.5x1mm, Pitch 0.5mm, IPC Medium Density)
footprint L611+1_L (SON, 6-Leads, Body 1.5x1mm, Pitch 0.5mm, IPC High Density)
footprint L611+1_M (SON, 6-Leads, Body 1.5x1mm, Pitch 0.5mm, IPC Low Density)
pins: 1 LBI2 (in), 2 GND (power), 3 LBI1 (in), 4 ~{LBO1} (oc), 5 ~{LBO2} (oc), 6 BATT (power)

## MAX6780LTB+
designator U?
Low-Power, 1%-Accurate Battery Monitor, Dual LBO output, Open-Drain output, Fixed hysteresis, 6-Pin DFN, -40°C to +85°C, Pb-Free; DatasheetVersion: Rev 4, May-2009; PackageVersion: revG, 2012; PackageReference: L611+1; PackageDescription: 6-Pin Micro Dual Flatpack No Lead, 1.5 x 1 x 0.8 mm Body, 0.5 mm Pitch, uDFN; ComponentLink1Description: Manufacturer URL; ComponentLink1URL: http://www.maxim-ic.com; ComponentLink2Description: Datasheet; ComponentLink2URL: http://datasheets.maxim-ic.com/en/ds/MAX6775-MAX6781.pdf; ComponentLink3Description: Package Specification; ComponentLink3URL: http://pdfserv.maxim-ic.com/package_dwgs/21-0147.PDF
footprint L611+1_N (SON, 6-Leads, Body 1.5x1mm, Pitch 0.5mm, IPC Medium Density)
footprint L611+1_L (SON, 6-Leads, Body 1.5x1mm, Pitch 0.5mm, IPC High Density)
footprint L611+1_M (SON, 6-Leads, Body 1.5x1mm, Pitch 0.5mm, IPC Low Density)
pins: 1 LBI2 (in), 2 GND (power), 3 LBI1 (in), 4 ~{LBO1} (oc), 5 ~{LBO2} (oc), 6 BATT (power)

## MAX6780LTB+T
designator U?
Low-Power, 1%-Accurate Battery Monitor, Dual LBO output, Open-Drain output, Fixed hysteresis, 6-Pin DFN, -40°C to +85°C, Pb-Free, Tape and Reel; DatasheetVersion: Rev 4, May-2009; PackageVersion: revG, 2012; PackageReference: L611+1; PackageDescription: 6-Pin Micro Dual Flatpack No Lead, 1.5 x 1 x 0.8 mm Body, 0.5 mm Pitch, uDFN; ComponentLink1Description: Manufacturer URL; ComponentLink1URL: http://www.maxim-ic.com; ComponentLink2Description: Datasheet; ComponentLink2URL: http://datasheets.maxim-ic.com/en/ds/MAX6775-MAX6781.pdf; ComponentLink3Description: Package Specification; ComponentLink3URL: http://pdfserv.maxim-ic.com/package_dwgs/21-0147.PDF
footprint L611+1_N (SON, 6-Leads, Body 1.5x1mm, Pitch 0.5mm, IPC Medium Density)
footprint L611+1_L (SON, 6-Leads, Body 1.5x1mm, Pitch 0.5mm, IPC High Density)
footprint L611+1_M (SON, 6-Leads, Body 1.5x1mm, Pitch 0.5mm, IPC Low Density)
pins: 1 LBI2 (in), 2 GND (power), 3 LBI1 (in), 4 ~{LBO1} (oc), 5 ~{LBO2} (oc), 6 BATT (power)

## MAX6780LTC+
designator U?
Low-Power, 1%-Accurate Battery Monitor, Dual LBO output, Open-Drain output, Fixed hysteresis, 6-Pin DFN, -40°C to +85°C, Pb-Free; DatasheetVersion: Rev 4, May-2009; PackageVersion: revG, 2012; PackageReference: L611+1; PackageDescription: 6-Pin Micro Dual Flatpack No Lead, 1.5 x 1 x 0.8 mm Body, 0.5 mm Pitch, uDFN; ComponentLink1Description: Manufacturer URL; ComponentLink1URL: http://www.maxim-ic.com; ComponentLink2Description: Datasheet; ComponentLink2URL: http://datasheets.maxim-ic.com/en/ds/MAX6775-MAX6781.pdf; ComponentLink3Description: Package Specification; ComponentLink3URL: http://pdfserv.maxim-ic.com/package_dwgs/21-0147.PDF
footprint L611+1_N (SON, 6-Leads, Body 1.5x1mm, Pitch 0.5mm, IPC Medium Density)
footprint L611+1_L (SON, 6-Leads, Body 1.5x1mm, Pitch 0.5mm, IPC High Density)
footprint L611+1_M (SON, 6-Leads, Body 1.5x1mm, Pitch 0.5mm, IPC Low Density)
pins: 1 LBI2 (in), 2 GND (power), 3 LBI1 (in), 4 ~{LBO1} (oc), 5 ~{LBO2} (oc), 6 BATT (power)

## MAX6780LTC+T
designator U?
Low-Power, 1%-Accurate Battery Monitor, Dual LBO output, Open-Drain output, Fixed hysteresis, 6-Pin DFN, -40°C to +85°C, Pb-Free, Tape and Reel; DatasheetVersion: Rev 4, May-2009; PackageVersion: revG, 2012; PackageReference: L611+1; PackageDescription: 6-Pin Micro Dual Flatpack No Lead, 1.5 x 1 x 0.8 mm Body, 0.5 mm Pitch, uDFN; ComponentLink1Description: Manufacturer URL; ComponentLink1URL: http://www.maxim-ic.com; ComponentLink2Description: Datasheet; ComponentLink2URL: http://datasheets.maxim-ic.com/en/ds/MAX6775-MAX6781.pdf; ComponentLink3Description: Package Specification; ComponentLink3URL: http://pdfserv.maxim-ic.com/package_dwgs/21-0147.PDF
footprint L611+1_N (SON, 6-Leads, Body 1.5x1mm, Pitch 0.5mm, IPC Medium Density)
footprint L611+1_L (SON, 6-Leads, Body 1.5x1mm, Pitch 0.5mm, IPC High Density)
footprint L611+1_M (SON, 6-Leads, Body 1.5x1mm, Pitch 0.5mm, IPC Low Density)
pins: 1 LBI2 (in), 2 GND (power), 3 LBI1 (in), 4 ~{LBO1} (oc), 5 ~{LBO2} (oc), 6 BATT (power)

## MAX6781LTA+T
designator U?
Low-Power, 1%-Accurate Battery Monitor, Dual LBO output, Mixed output, Fixed hysteresis, 6-Pin DFN, -40°C to +85°C, Pb-Free, Tape and Reel; DatasheetVersion: Rev 4, May-2009; PackageVersion: revG, 2012; PackageReference: L611+1; PackageDescription: 6-Pin Micro Dual Flatpack No Lead, 1.5 x 1 x 0.8 mm Body, 0.5 mm Pitch, uDFN; ComponentLink1Description: Manufacturer URL; ComponentLink1URL: http://www.maxim-ic.com; ComponentLink2Description: Datasheet; ComponentLink2URL: http://datasheets.maxim-ic.com/en/ds/MAX6775-MAX6781.pdf; ComponentLink3Description: Package Specification; ComponentLink3URL: http://pdfserv.maxim-ic.com/package_dwgs/21-0147.PDF
footprint L611+1_N (SON, 6-Leads, Body 1.5x1mm, Pitch 0.5mm, IPC Medium Density)
footprint L611+1_L (SON, 6-Leads, Body 1.5x1mm, Pitch 0.5mm, IPC High Density)
footprint L611+1_M (SON, 6-Leads, Body 1.5x1mm, Pitch 0.5mm, IPC Low Density)
pins: 1 LBI2 (in), 2 GND (power), 3 LBI1 (in), 4 ~{LBO1} (out), 5 ~{LBO2} (oc), 6 BATT (power)

## MAX6781LTB+T
designator U?
Low-Power, 1%-Accurate Battery Monitor, Dual LBO output, Mixed output, Fixed hysteresis, 6-Pin DFN, -40°C to +85°C, Pb-Free, Tape and Reel; DatasheetVersion: Rev 4, May-2009; PackageVersion: revG, 2012; PackageReference: L611+1; PackageDescription: 6-Pin Micro Dual Flatpack No Lead, 1.5 x 1 x 0.8 mm Body, 0.5 mm Pitch, uDFN; ComponentLink1Description: Manufacturer URL; ComponentLink1URL: http://www.maxim-ic.com; ComponentLink2Description: Datasheet; ComponentLink2URL: http://datasheets.maxim-ic.com/en/ds/MAX6775-MAX6781.pdf; ComponentLink3Description: Package Specification; ComponentLink3URL: http://pdfserv.maxim-ic.com/package_dwgs/21-0147.PDF
footprint L611+1_N (SON, 6-Leads, Body 1.5x1mm, Pitch 0.5mm, IPC Medium Density)
footprint L611+1_L (SON, 6-Leads, Body 1.5x1mm, Pitch 0.5mm, IPC High Density)
footprint L611+1_M (SON, 6-Leads, Body 1.5x1mm, Pitch 0.5mm, IPC Low Density)
pins: 1 LBI2 (in), 2 GND (power), 3 LBI1 (in), 4 ~{LBO1} (out), 5 ~{LBO2} (oc), 6 BATT (power)

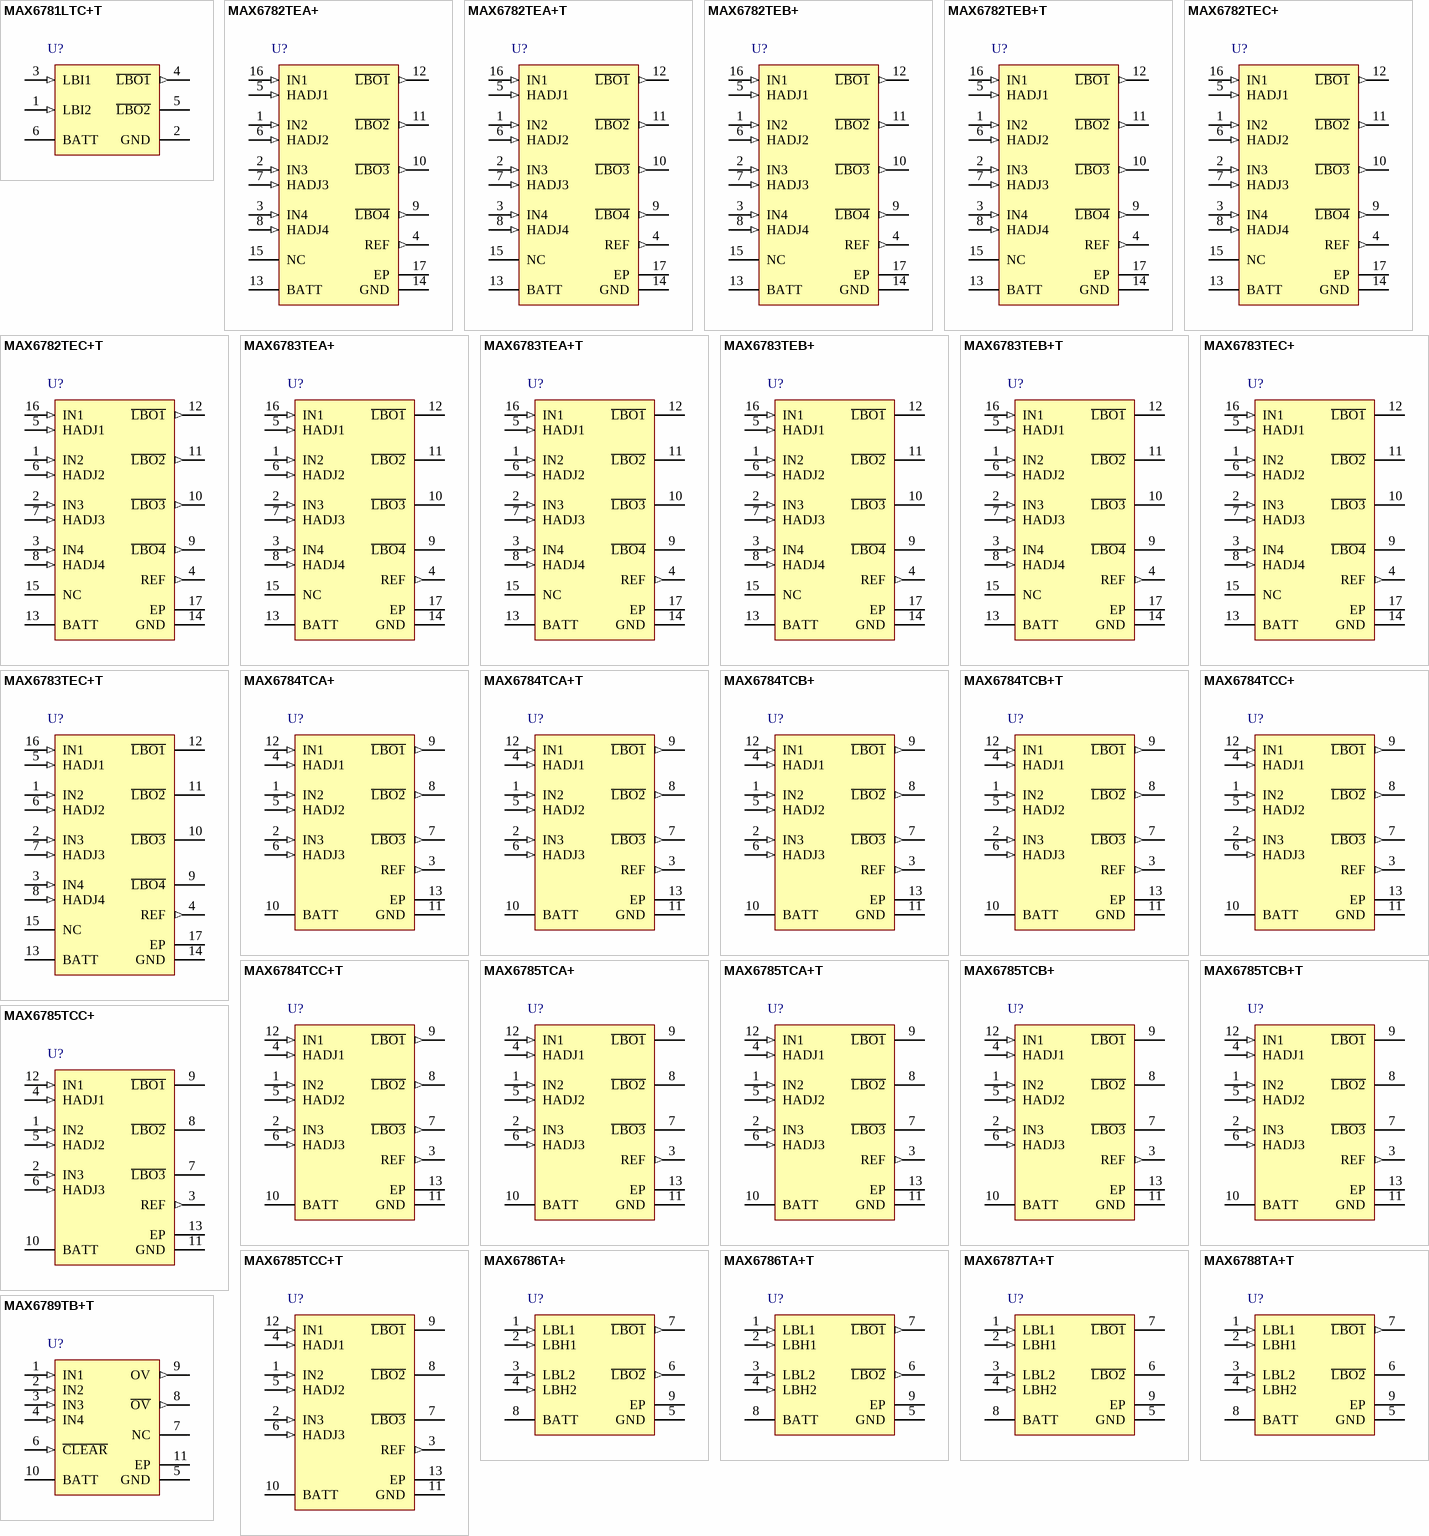
[diagram p1: symbols MAX6781LTC+T to MAX6789TB+T]

## MAX6781LTC+T
designator U?
Low-Power, 1%-Accurate Battery Monitor, Dual LBO output, Mixed output, Fixed hysteresis, 6-Pin DFN, -40°C to +85°C, Pb-Free, Tape and Reel; DatasheetVersion: Rev 4, May-2009; PackageVersion: revG, 2012; PackageReference: L611+1; PackageDescription: 6-Pin Micro Dual Flatpack No Lead, 1.5 x 1 x 0.8 mm Body, 0.5 mm Pitch, uDFN; ComponentLink1Description: Manufacturer URL; ComponentLink1URL: http://www.maxim-ic.com; ComponentLink2Description: Datasheet; ComponentLink2URL: http://datasheets.maxim-ic.com/en/ds/MAX6775-MAX6781.pdf; ComponentLink3Description: Package Specification; ComponentLink3URL: http://pdfserv.maxim-ic.com/package_dwgs/21-0147.PDF
footprint L611+1_N (SON, 6-Leads, Body 1.5x1mm, Pitch 0.5mm, IPC Medium Density)
footprint L611+1_L (SON, 6-Leads, Body 1.5x1mm, Pitch 0.5mm, IPC High Density)
footprint L611+1_M (SON, 6-Leads, Body 1.5x1mm, Pitch 0.5mm, IPC Low Density)
pins: 1 LBI2 (in), 2 GND (power), 3 LBI1 (in), 4 ~{LBO1} (out), 5 ~{LBO2} (oc), 6 BATT (power)

## MAX6782TEA+
designator U?
Low-Power, 1% Accurate, Quad LBO output Level Battery Monitor, Push-Pull output, Fixed/Adj hysteresis, 16-Pin TQFN, -40°C to +85°C, Pb-Free; DatasheetVersion: Rev 3, Mar-2010; PackageVersion: revJ, 2010; PackageReference: T1633+4; PackageDescription: 16-Pin Thin Quad Flatpack, No Leads, 3 x 3 x 0.75 mm Body, 0.5 mm Pitch, TQFN, Pb-Free; Code_JEDEC: MO-220WEED-2; ComponentLink1Description: Manufacturer URL; ComponentLink1URL: http://www.maxim-ic.com; ComponentLink2Description: Datasheet; ComponentLink2URL: http://datasheets.maxim-ic.com/en/ds/MAX6782-MAX6790.pdf; ComponentLink3Description: Package Specification; ComponentLink3URL: http://pdfserv.maxim-ic.com/package_dwgs/21-0136.PDF
footprint T1633+4_N (QFN, 16-Leads, Body 3x3mm, Pitch 0.5mm, Thermal Pad 1.1x1.1mm, IPC Medium Density)
footprint T1633+4_L (QFN, 16-Leads, Body 3x3mm, Pitch 0.5mm, Thermal Pad 1.1x1.1mm, IPC High Density)
footprint T1633+4_M (QFN, 16-Leads, Body 3x3mm, Pitch 0.5mm, Thermal Pad 1.1x1.1mm, IPC Low Density)
pins: 1 IN2 (in), 2 IN3 (in), 3 IN4 (in), 4 REF (out), 5 HADJ1 (in), 6 HADJ2 (in), 7 HADJ3 (in), 8 HADJ4 (in), 9 ~{LBO4} (out), 10 ~{LBO3} (out), 11 ~{LBO2} (out), 12 ~{LBO1} (out), 13 BATT (power), 14 GND (power), 15 NC, 16 IN1 (in), 17 EP (power)

## MAX6782TEA+T
designator U?
Low-Power, 1% Accurate, Quad LBO output Level Battery Monitor, Push-Pull output, Fixed/Adj hysteresis, 16-Pin TQFN, -40°C to +85°C, Pb-Free, Tape and Reel; DatasheetVersion: Rev 3, Mar-2010; PackageVersion: revJ, 2010; PackageReference: T1633+4; PackageDescription: 16-Pin Thin Quad Flatpack, No Leads, 3 x 3 x 0.75 mm Body, 0.5 mm Pitch, TQFN, Pb-Free; Code_JEDEC: MO-220WEED-2; ComponentLink1Description: Manufacturer URL; ComponentLink1URL: http://www.maxim-ic.com; ComponentLink2Description: Datasheet; ComponentLink2URL: http://datasheets.maxim-ic.com/en/ds/MAX6782-MAX6790.pdf; ComponentLink3Description: Package Specification; ComponentLink3URL: http://pdfserv.maxim-ic.com/package_dwgs/21-0136.PDF
footprint T1633+4_N (QFN, 16-Leads, Body 3x3mm, Pitch 0.5mm, Thermal Pad 1.1x1.1mm, IPC Medium Density)
footprint T1633+4_L (QFN, 16-Leads, Body 3x3mm, Pitch 0.5mm, Thermal Pad 1.1x1.1mm, IPC High Density)
footprint T1633+4_M (QFN, 16-Leads, Body 3x3mm, Pitch 0.5mm, Thermal Pad 1.1x1.1mm, IPC Low Density)
pins: 1 IN2 (in), 2 IN3 (in), 3 IN4 (in), 4 REF (out), 5 HADJ1 (in), 6 HADJ2 (in), 7 HADJ3 (in), 8 HADJ4 (in), 9 ~{LBO4} (out), 10 ~{LBO3} (out), 11 ~{LBO2} (out), 12 ~{LBO1} (out), 13 BATT (power), 14 GND (power), 15 NC, 16 IN1 (in), 17 EP (power)

## MAX6782TEB+
designator U?
Low-Power, 1% Accurate, Quad LBO output Level Battery Monitor, Push-Pull output, Fixed/Adj hysteresis, 16-Pin TQFN, -40°C to +85°C, Pb-Free; DatasheetVersion: Rev 3, Mar-2010; PackageVersion: revJ, 2010; PackageReference: T1633+4; PackageDescription: 16-Pin Thin Quad Flatpack, No Leads, 3 x 3 x 0.75 mm Body, 0.5 mm Pitch, TQFN, Pb-Free; Code_JEDEC: MO-220WEED-2; ComponentLink1Description: Manufacturer URL; ComponentLink1URL: http://www.maxim-ic.com; ComponentLink2Description: Datasheet; ComponentLink2URL: http://datasheets.maxim-ic.com/en/ds/MAX6782-MAX6790.pdf; ComponentLink3Description: Package Specification; ComponentLink3URL: http://pdfserv.maxim-ic.com/package_dwgs/21-0136.PDF
footprint T1633+4_N (QFN, 16-Leads, Body 3x3mm, Pitch 0.5mm, Thermal Pad 1.1x1.1mm, IPC Medium Density)
footprint T1633+4_L (QFN, 16-Leads, Body 3x3mm, Pitch 0.5mm, Thermal Pad 1.1x1.1mm, IPC High Density)
footprint T1633+4_M (QFN, 16-Leads, Body 3x3mm, Pitch 0.5mm, Thermal Pad 1.1x1.1mm, IPC Low Density)
pins: 1 IN2 (in), 2 IN3 (in), 3 IN4 (in), 4 REF (out), 5 HADJ1 (in), 6 HADJ2 (in), 7 HADJ3 (in), 8 HADJ4 (in), 9 ~{LBO4} (out), 10 ~{LBO3} (out), 11 ~{LBO2} (out), 12 ~{LBO1} (out), 13 BATT (power), 14 GND (power), 15 NC, 16 IN1 (in), 17 EP (power)

## MAX6782TEB+T
designator U?
Low-Power, 1% Accurate, Quad LBO output Level Battery Monitor, Push-Pull output, Fixed/Adj hysteresis, 16-Pin TQFN, -40°C to +85°C, Pb-Free, Tape and Reel; DatasheetVersion: Rev 3, Mar-2010; PackageVersion: revJ, 2010; PackageReference: T1633+4; PackageDescription: 16-Pin Thin Quad Flatpack, No Leads, 3 x 3 x 0.75 mm Body, 0.5 mm Pitch, TQFN, Pb-Free; Code_JEDEC: MO-220WEED-2; ComponentLink1Description: Manufacturer URL; ComponentLink1URL: http://www.maxim-ic.com; ComponentLink2Description: Datasheet; ComponentLink2URL: http://datasheets.maxim-ic.com/en/ds/MAX6782-MAX6790.pdf; ComponentLink3Description: Package Specification; ComponentLink3URL: http://pdfserv.maxim-ic.com/package_dwgs/21-0136.PDF
footprint T1633+4_N (QFN, 16-Leads, Body 3x3mm, Pitch 0.5mm, Thermal Pad 1.1x1.1mm, IPC Medium Density)
footprint T1633+4_L (QFN, 16-Leads, Body 3x3mm, Pitch 0.5mm, Thermal Pad 1.1x1.1mm, IPC High Density)
footprint T1633+4_M (QFN, 16-Leads, Body 3x3mm, Pitch 0.5mm, Thermal Pad 1.1x1.1mm, IPC Low Density)
pins: 1 IN2 (in), 2 IN3 (in), 3 IN4 (in), 4 REF (out), 5 HADJ1 (in), 6 HADJ2 (in), 7 HADJ3 (in), 8 HADJ4 (in), 9 ~{LBO4} (out), 10 ~{LBO3} (out), 11 ~{LBO2} (out), 12 ~{LBO1} (out), 13 BATT (power), 14 GND (power), 15 NC, 16 IN1 (in), 17 EP (power)

## MAX6782TEC+
designator U?
Low-Power, 1% Accurate, Quad LBO output Level Battery Monitor, Push-Pull output, Fixed/Adj hysteresis, 16-Pin TQFN, -40°C to +85°C, Pb-Free; DatasheetVersion: Rev 3, Mar-2010; PackageVersion: revJ, 2010; PackageReference: T1633+4; PackageDescription: 16-Pin Thin Quad Flatpack, No Leads, 3 x 3 x 0.75 mm Body, 0.5 mm Pitch, TQFN, Pb-Free; Code_JEDEC: MO-220WEED-2; ComponentLink1Description: Manufacturer URL; ComponentLink1URL: http://www.maxim-ic.com; ComponentLink2Description: Datasheet; ComponentLink2URL: http://datasheets.maxim-ic.com/en/ds/MAX6782-MAX6790.pdf; ComponentLink3Description: Package Specification; ComponentLink3URL: http://pdfserv.maxim-ic.com/package_dwgs/21-0136.PDF
footprint T1633+4_N (QFN, 16-Leads, Body 3x3mm, Pitch 0.5mm, Thermal Pad 1.1x1.1mm, IPC Medium Density)
footprint T1633+4_L (QFN, 16-Leads, Body 3x3mm, Pitch 0.5mm, Thermal Pad 1.1x1.1mm, IPC High Density)
footprint T1633+4_M (QFN, 16-Leads, Body 3x3mm, Pitch 0.5mm, Thermal Pad 1.1x1.1mm, IPC Low Density)
pins: 1 IN2 (in), 2 IN3 (in), 3 IN4 (in), 4 REF (out), 5 HADJ1 (in), 6 HADJ2 (in), 7 HADJ3 (in), 8 HADJ4 (in), 9 ~{LBO4} (out), 10 ~{LBO3} (out), 11 ~{LBO2} (out), 12 ~{LBO1} (out), 13 BATT (power), 14 GND (power), 15 NC, 16 IN1 (in), 17 EP (power)